# Altium footprint library FCR684216T.PcbLib: 1 footprints
Each footprint in its own frame and in the unit in brackets; x right, y up, seen from the top. Pads: shape width x height; smd on the part's side, far side on the other; paste and mask are expansions set on the pad; w line width, h text height; cw(c..) or ccw(c..) is an arc to the next point about the centre after c.
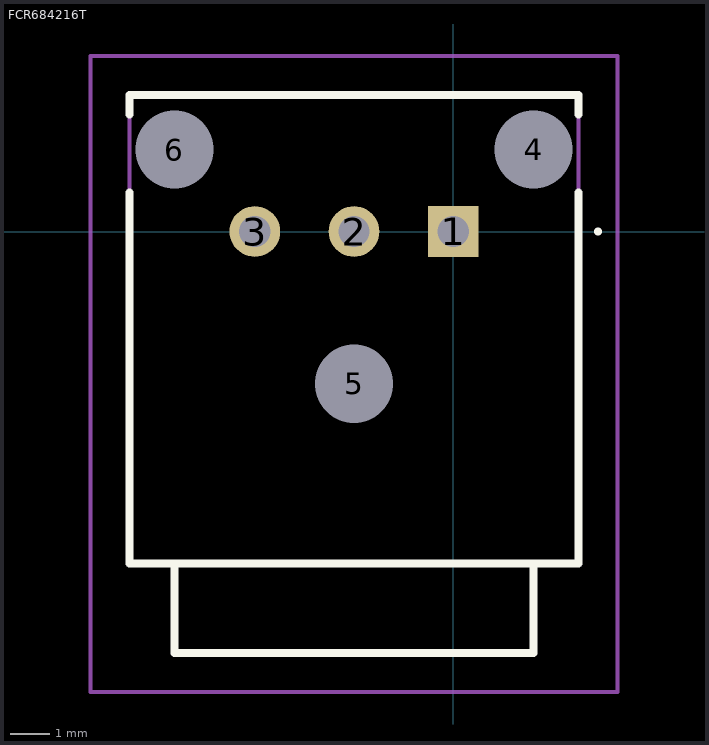
[diagram p0: the footprint, top view; thin cyan lines are the x and y axes]

## FCR684216T [mm]
pads (6):
  rect 1.3x1.3 hole 0.8: 1(0,0)
  round 1.3 hole 0.8: 2(-2.54,0) 3(-5.08,0)
  round 1 hole 2 unplated: 4(2.06,2.1) 5(-2.54,-3.9) 6(-7.14,2.1)
Top Overlay:
  lines w0.1: 3.66,0 3.66,0 ; 3.66,0 ccw(c3.71,0) 3.76,0 ; 3.66,0 cw(c3.71,0) 3.76,0 ; 3.76,0 3.76,0
  lines w0.2: -8.29,1 -8.29,-8.5 3.21,-8.5 3.21,1 ; -8.29,3 -8.29,3.5 3.21,3.5 3.21,3 ; -7.14,-8.5 -7.14,-10.8 2.06,-10.8 2.06,-8.5
Mechanical 15:
  lines w0.1: -7.14,-8.5 -7.14,-10.8 2.06,-10.8 2.06,-8.5 ; -8.29,-8.5 3.21,-8.5 3.21,3.5 -8.29,3.5 -8.29,-8.5
Mechanical 20:
  lines w0.1: -9.29,-11.8 4.21,-11.8 4.21,4.5 -9.29,4.5 -9.29,-11.8